# Altium schematic symbol library OpenPLCv0.2.0_Connector.SchLib: 18 symbols
Pins are listed as number, name and electrical type; pins without a type are passive.

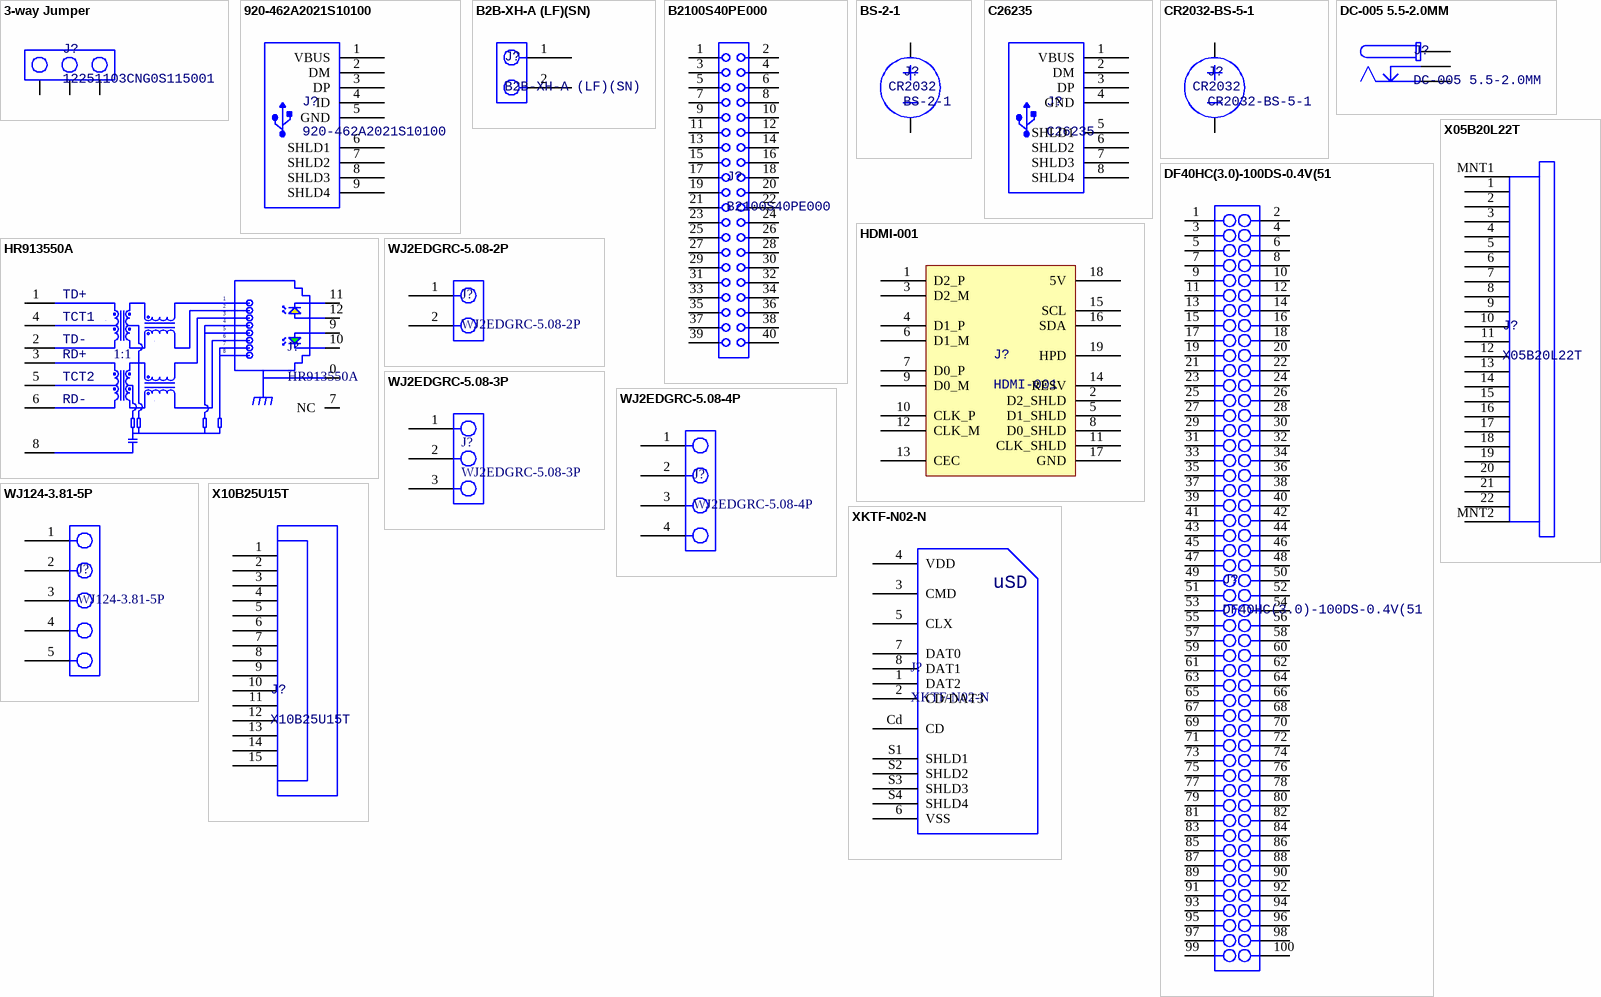
[diagram p0: symbols 3-way Jumper to XKTF-N02-N]

## 3-way Jumper
designator J?, comment 12251103CNG0S115001
Pin Header 3 1 right-angle，180degrees 2.54mm Through Hole,P=2.54mm Pin Header & Female Header RoHS
footprint Header_3POS
pins: 1, 2, 3

## 920-462A2021S10100
designator J?
USB - Mini B Female USB 2 5 SMD USB Connectors RoHS; LCSC PN: C69074
footprint 920-462A2021S10100 (USB - Mini B Female USB 2 5 SMD USB Connectors RoHS)
pins: 1 VBUS, 2 DM, 3 DP, 4 ID, 5 GND, 6 SHLD1, 7 SHLD2, 8 SHLD3, 9 SHLD4

## B2B-XH-A (LF)(SN)
designator J?
Pin Header, Vertical, Wire-to-Board, 2.5 mm, 1 Rows, 2 Contacts, Through Hole Straight, XH Series
footprint B2B-XH-A (LF)(SN)
pins: 1, 2

## B2100S40PE000
designator J?
Pin Header 40 2 right-angle，180degrees 2.54mm Through Hole,P=2.54mm Pin Header & Female Header RoHS
footprint RaspberryPi_B+_GPIO_Header
pins: 1, 2, 3, 4, 5, 6, 7, 8, 9, 10, 11, 12, 13, 14, 15, 16, 17, 18, 19, 20, 21, 22, 23, 24, 25, 26, 27, 28, 29, 30, 31, 32, 33, 34, 35, 36, 37, 38, 39, 40

## BS-2-1
designator J?
DIP Battery Box/Battery Holders ROHS
footprint BS-2-1
pins: 1, 2
text: CR2032

## C26235
designator J?
USB - Type A Female USB 2 4 Through Hole USB Connectors RoHS
footprint C26235 (USB - Type A Female USB 2 4 Through Hole USB Connectors RoHS)
pins: 1 VBUS, 2 DM, 3 DP, 4 GND, 5 SHLD1, 6 SHLD2, 7 SHLD3, 8 SHLD4

## CR2032-BS-5-1
designator J?
Q&J CR2032-BS-5-1 DIP Battery Holders, Clips & Contacts RoHS
footprint CR2032-BS-5-1
pins: 1, 2
text: CR2032

## DC-005 5.5-2.0MM
designator J?
Through Hole AC/DC Power Plugs & Receptacles RoHS
footprint DC-005 5.5-2.0MM (Through Hole AC/DC Power Plugs & Receptacles RoHS)
pins: 2, 3, 4

## DF40HC(3.0)-100DS-0.4V(51
designator J?
Conn Board to Board RCP 100 POS 0.4mm Solder ST SMD T/R
footprint DF40HC(3.0)-100DS-0.4V(51
pins: 1, 2, 3, 4, 5, 6, 7, 8, 9, 10, 11, 12, 13, 14, 15, 16, 17, 18, 19, 20, 21, 22, 23, 24, 25, 26, 27, 28, 29, 30, 31, 32, 33, 34, 35, 36, 37, 38, 39, 40, 41, 42, 43, 44, 45, 46, 47, 48, 49, 50, 51, 52, 53, 54, 55, 56, 57, 58, 59, 60, 61, 62, 63, 64, 65, 66, 67, 68, 69, 70, 71, 72, 73, 74, 75, 76, 77, 78, 79, 80, 81, 82, 83, 84, 85, 86, 87, 88, 89, 90, 91, 92, 93, 94, 95, 96, 97, 98, 99, 100

## HDMI-001
designator J?
BOOMELE(Boom Precision Elec) HDMIconnector 19 Female Horizontal SMD Audio & Video Connectors RoHS
footprint HDMI-001 (BOOMELE(Boom Precision Elec) HDMI-001)
pins: 1 D2_P, 2 D2_SHLD, 3 D2_M, 4 D1_P, 5 D1_SHLD, 6 D1_M, 7 D0_P, 8 D0_SHLD, 9 D0_M, 10 CLK_P, 11 CLK_SHLD, 12 CLK_M, 13 CEC, 14 RESV, 15 SCL, 16 SDA, 17 GND, 18 5V, 19 HPD

## HR913550A
designator J?
RJ45 12 1 Green - Yellow Through Hole Ethernet Connectors/Modular Connectors (RJ45 RJ11) RoHS
footprint HR913550A (RJ45 12 1 Green - Yellow Through Hole Ethernet Connectors/Modular Connectors (RJ45 RJ11) RoHS)
pins: 0 SHLD, 1 TD+, 2 TD-, 3 RD+, 4 TCT1, 5 TCT2, 6 RD-, 7 NC, 8 GND, 9 OLED+, 10 GLED+, 11 YLED-, 12 YLED+
text: 1:1

## WJ2EDGRC-5.08-2P
designator J?
Covered（4Sided） 2 1 0.200"（5.08mm） 2 P=5.08mm Pluggable System Terminal Block RoHS
footprint 796638-2 (2POS 5.08MM CE R/A HDR,TRM BLK)
footprint 796638-2_BoardEdgeAlt (2POS 5.08MM CE R/A HDR,TRM BLK)
pins: 1, 2

## WJ2EDGRC-5.08-3P
designator J?
Covered（4Sided） 3 1 0.200"（5.08mm） 3 P=5.08mm Pluggable System Terminal Block RoHS
footprint 796638-3 (3POS 5.08MM CE R/A HDR,TRM BLK)
footprint 796638-3_BoardEdgeAlt (3POS 5.08MM CE R/A HDR,TRM BLK)
pins: 1, 2, 3

## WJ2EDGRC-5.08-4P
designator J?
Covered（4Sided） 4 1 0.200"（5.08mm） 4 P=5.08mm Pluggable System Terminal Block RoHS
footprint 796638-4 (4POS 5.08MM CE R/A HDR,TRM BLK)
footprint 796638-4_BoardEdgeAlt (4POS 5.08MM CE R/A HDR,TRM BLK)
pins: 1, 2, 3, 4

## WJ124-3.81-5P
designator J?
5 Wiring Board - Line to Board 0.150"(3.81mm) 5 1 P=3.81mm Screw terminal ROHS
footprint WJ124-3.81-5P (Ningbo Kangnex Elec WJ124-3.81-5P)
footprint WJ124-3.81-5P_BoardEdgeAlt (Ningbo Kangnex Elec WJ124-3.81-5P)
pins: 1, 2, 3, 4, 5

## X05B20L22T
designator J?
22 0.020"（0.50mm） 0.079"（2.00mm） Slide Lock Contact,Bottom SMD,P=0.5mm FFC, FPC Connectors ROHS
footprint X05B20L22T
pins: 1, 2, 3, 4, 5, 6, 7, 8, 9, 10, 11, 12, 13, 14, 15, 16, 17, 18, 19, 20, 21, 22, MNT1, MNT2

## X10B25U15T
designator J?
Contact,Top 15 0.039"（1.00mm） 0.098"（2.50mm） Slide Lock SMD FFC, FPC Connectors RoHS
footprint X10B25U15T (Contact,Top 15 0.039"(1.00mm) 0.098"(2.50mm) Slide Lock SMD FFC, FPC Connectors RoHS)
pins: 1, 2, 3, 4, 5, 6, 7, 8, 9, 10, 11, 12, 13, 14, 15

## XKTF-N02-N
designator J?
XKB Enterprise XKTF-N02-N / SMD Card Sockets Connectors RoHS
footprint XKTF-N02-N (XKB Enterprise XKTF-N02-N SMD Card Sockets Connectors RoHS)
pins: 1 DAT2, 2 CD/DAT3, 3 CMD, 4 VDD, 5 CLX, 6 VSS, 7 DAT0, 8 DAT1, Cd CD, S1 SHLD1, S2 SHLD2, S3 SHLD3, S4 SHLD4
text: uSD